# EAGLE library part BMP280 (library BMP280)
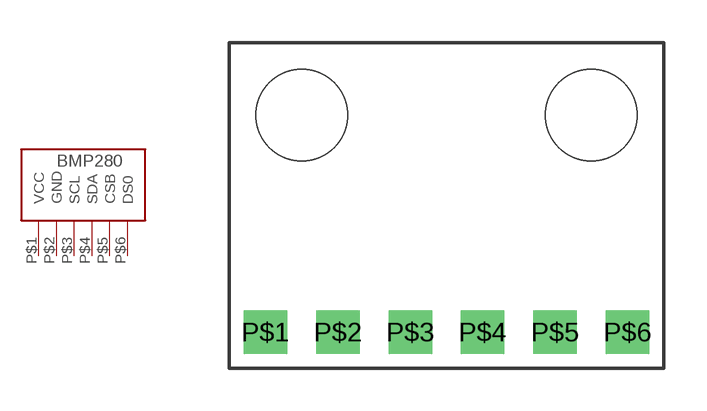
[diagram p0: symbol with the pads of BMP280; footprint BMP280]

Designator prefix -

## BMP280  [BMP280]
P$1  VCC
P$2  GND
P$3  SCL
P$4  SDA
P$5  CSB
P$6  DS0

## Footprint BMP280 (pad centres in mm)
drill 1.016 square: P$1 1.27,1.27; P$2 3.81,1.27; P$3 6.35,1.27; P$4 8.89,1.27; P$5 11.43,1.27; P$6 13.97,1.27
hole 3.2 at 2.54,8.89
hole 3.2 at 12.7,8.89